# Altium footprint library Lab2.PcbLib: 2 footprints
Each footprint in its own frame and in the unit in brackets; x right, y up, seen from the top. Pads: shape width x height; smd on the part's side, far side on the other; paste and mask are expansions set on the pad; w line width, h text height; cw(c..) or ccw(c..) is an arc to the next point about the centre after c.
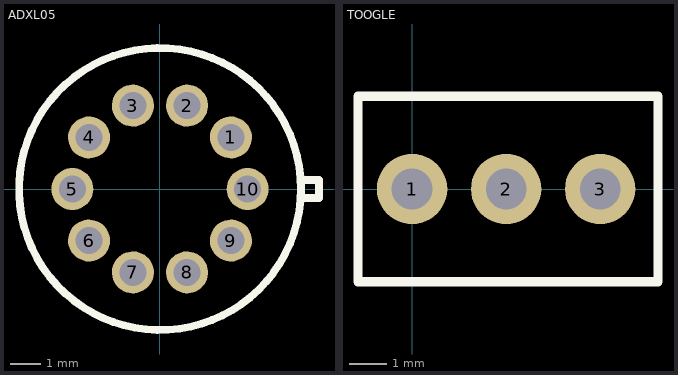
[diagram p0: the footprints below, top view; thin cyan lines are the x and y axes]

## ADXL05 [mm]
pads (10):
  round 1.4 hole 0.9: 1(2.363,1.717) 2(0.903,2.778) 3(-0.903,2.778) 4(-2.363,1.717) 5(-2.921,0) 6(-2.363,-1.717) 7(-0.903,-2.778) 8(0.903,-2.778) 9(2.363,-1.717) 10(2.921,0)
Top Overlay:
  circle w0.254: c0,0 r4.699
  lines w0.254: 4.7,-0.3 5.3,-0.3 5.3,0.3 4.7,0.3

## TOOGLE [mm]
pads (3):
  round 1.9 hole 1.1: 1(0,0) 2(2.54,0) 3(5.08,0)
Top Overlay:
  lines w0.254: -1.46,-2.5 -1.46,2.5 6.64,2.5 6.64,-2.5 -1.46,-2.5